# EAGLE library part TVS-DIODE-ARRAY (library reprap)
Transient Voltage Protection Diode Array
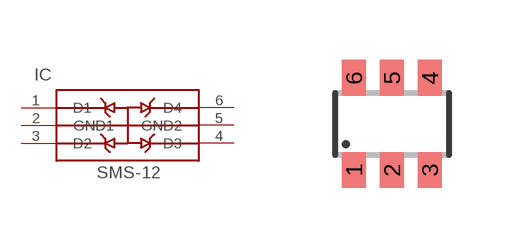
[diagram p21: symbol with the pads of SOT23-6; footprint SOT23-6]

Designator prefix IC

## TVS-DIODE-ARRAY  [SOT23-6]
1  D1
2  GND1  pwr
3  D2
4  D3
5  GND2  pwr
6  D4

## Footprint SOT23-6 (pad centres in mm)
smd 0.6 x 0.9: 1 -0.95,-1.15; 2 0,-1.15; 3 0.95,-1.15; 4 0.95,1.15; 5 0,1.15; 6 -0.95,1.15